# EAGLE library part CSR8645-MODULE (library Master)
CSR8645 Module Documentation: https://www.aliexpress.com/item/2015-New-CSR8645-4-0-Low-Power-Consumption-Bluetooth-Stereo-Audio-Module-Supports-APTx/32308087642.html
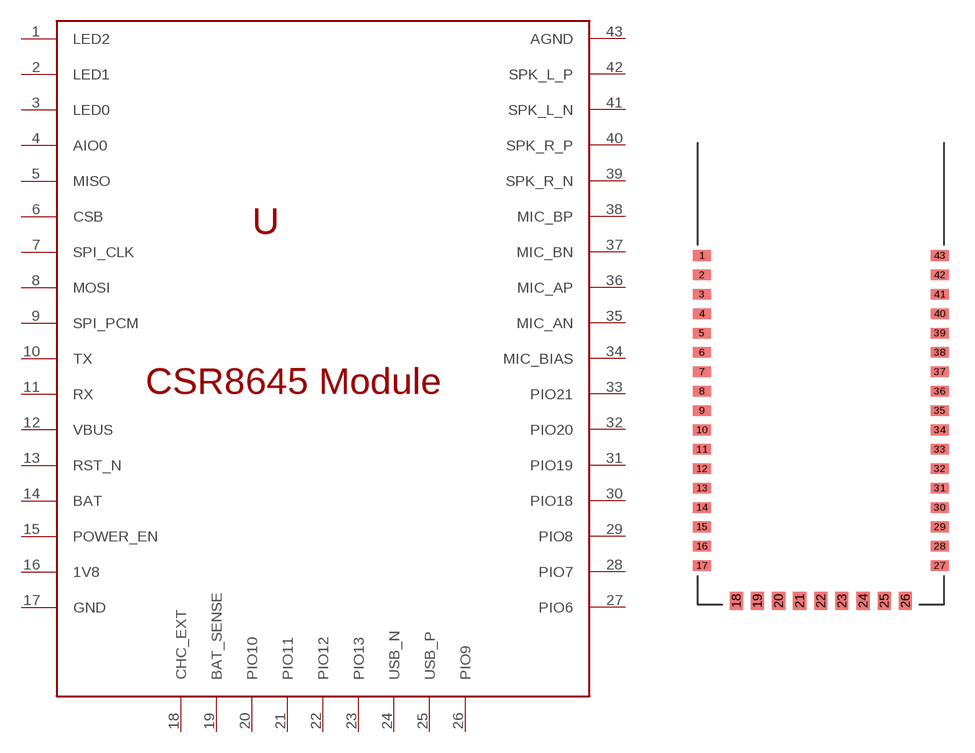
[diagram p8: symbol with the pads of CSR8645-MODULE-F3188; footprint CSR8645-MODULE-F3188]

Designator prefix U

## CSR8645-MODULE  [CSR8645-MODULE-F3188]
1  LED2
2  LED1
3  LED0
4  AIO0
5  MISO
6  CSB
7  SPI_CLK
8  MOSI
9  SPI_PCM
10  TX
11  RX
12  VBUS
13  RST_N
14  BAT
15  POWER_EN
16  1V8
17  GND
18  CHC_EXT
19  BAT_SENSE
20  PIO10
21  PIO11
22  PIO12
23  PIO13
24  USB_N
25  USB_P
26  PIO9
27  PIO6
28  PIO7
29  PIO8
30  PIO18
31  PIO19
32  PIO20
33  PIO21
34  MIC_BIAS
35  MIC_AN
36  MIC_AP
37  MIC_BN
38  MIC_BP
39  SPK_R_N
40  SPK_R_P
41  SPK_L_N
42  SPK_L_P
43  AGND

## Footprint CSR8645-MODULE-F3188 (pad centres in mm)
CSR8645 BT Module
smd 1 x 0.6: 1 -6.75,2.2; 2 -6.75,1.1; 3 -6.75,0; 4 -6.75,-1.1; 5 -6.75,-2.2; 6 -6.75,-3.3; 7 -6.75,-4.4; 8 -6.75,-5.5; 9 -6.75,-6.6; 10 -6.75,-7.7; 11 -6.75,-8.8; 12 -6.75,-9.9; 13 -6.75,-11; 14 -6.75,-12.1; 15 -6.75,-13.2; 16 -6.75,-14.3; 17 -6.75,-15.4; 27 6.75,-15.4; 28 6.75,-14.3; 29 6.75,-13.2; 30 6.75,-12.1; 31 6.75,-11; 32 6.75,-9.9; 33 6.75,-8.8; 34 6.75,-7.7; 35 6.75,-6.6; 36 6.75,-5.5; 37 6.75,-4.4; 38 6.75,-3.3; 39 6.75,-2.2; 40 6.75,-1.1; 41 6.75,0; 42 6.75,1.1; 43 6.75,2.2
smd 0.75 x 1: 18 -4.8,-17.4; 19 -3.6,-17.4; 20 -2.4,-17.4; 21 -1.2,-17.4; 22 0,-17.4; 23 1.2,-17.4; 24 2.4,-17.4; 25 3.6,-17.4; 26 4.8,-17.4